# Altium integrated library common.IntLib: 6 symbols
Pins are listed as number, name and electrical type; pins without a type are passive.

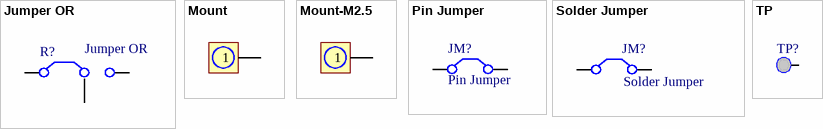
[diagram p0: symbols Jumper OR to TP]

## Jumper OR
designator R?
Shorted Pin Jumper; Published: 24-Mar-1999; LatestRevisionDate: 17-Jul-2002; LatestRevisionNote: Re-released for DXP Platform.; PackageReference: RAD-0.2; Publisher: Altium Limited; PackageDescription: Radial Cap, Thru-Hole; 2 Leads; 0.2 in Pin Spacing
footprint 0805 BOOL OR
pins: 1, 2, 3

## Mount
designator J?, comment #10 Mount  (value not drawn)
Mounting Point for M2.5 Screw
footprint #4 Clearance, 0.125 PCB (92196A022, 92141A005, 91841A005)
footprint #10 Clearance, 0.196 PCB no Hardware
pins: 1

## Mount-M2.5
designator M?, comment Mount  (value not drawn)
Mounting Point for M2.5 Screw
footprint MOUNT_PLATED-M2.5
footprint MOUNT_UNPLATED-M2.5
pins: 1

## Pin Jumper
designator JM?
Shorted Pin Jumper; Published: 24-Mar-1999; LatestRevisionDate: 17-Jul-2002; LatestRevisionNote: Re-released for DXP Platform.; PackageReference: RAD-0.2; Publisher: Altium Limited; PackageDescription: Radial Cap, Thru-Hole; 2 Leads; 0.2 in Pin Spacing
footprint HDR1X2 (Connector; Header; 2 Position)
pins: 1 C1, 2 C2

## Solder Jumper
designator JM?
Shorted Solder Jumper
footprint Solder Jumper
pins: 1, 2

## TP
designator TP?  (value not drawn)
footprint TP_TH
footprint TP_SMT
pins: 1